# Altium footprint library 430450628.PcbLib: 1 footprints
Each footprint in its own frame and in the unit in brackets; x right, y up, seen from the top. Pads: shape width x height; smd on the part's side, far side on the other; paste and mask are expansions set on the pad; w line width, h text height; cw(c..) or ccw(c..) is an arc to the next point about the centre after c.
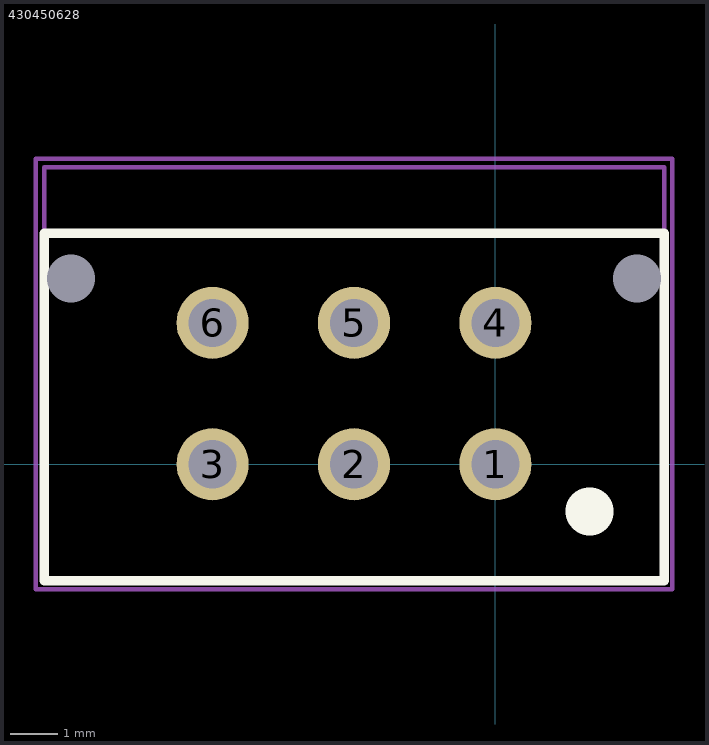
[diagram p0: the footprint, top view; thin cyan lines are the x and y axes]

## 430450628 [mm] "6 POS VERT MOLEX"
pads (8):
  round 1.53 hole 1.02: 1(0,0) 2(-3,0) 3(-6,0) 4(0,3) 5(-3,3) 6(-6,3)
  round 0 hole 1.02 unplated: MH1(3,3.94) MH2(-9,3.94)
Top Overlay:
  circle w1: c2,-1 r0.01
  lines w0.2: -9.57,-2.47 3.58,-2.47 3.58,4.9 -9.57,4.9 -9.57,-2.47
Mechanical 13:
  lines w0.1: -9.57,-2.47 -9.57,6.3 3.58,6.3 3.58,-2.47 -9.57,-2.47
Mechanical 15:
  lines w0.1: -9.75,-2.65 -9.75,6.48 3.75,6.48 3.75,-2.65 -9.75,-2.65
3D body "430450628.stp": height 9.95, standoff -3.14, extent -9.57,-2.47 3.58,6.3